# EAGLE library part NC7WZ14P6X (library KVB-ICs)
Inverter IC 2 Channel Schmitt Trigger SC-70-6
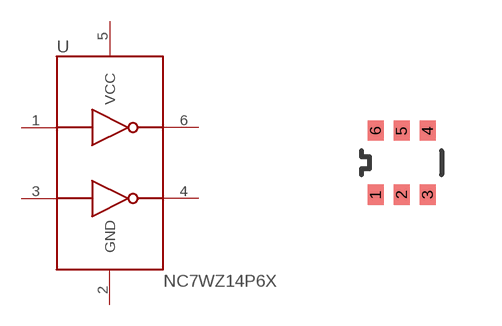
[diagram p1: symbol with the pads of SC70; footprint SC70]

Designator prefix U

## NC7WZ14P6XSC70 (MAN-PART_NUM: NC7WZ14P6X; MANUFACTURER: Fairchild Semiconductor)  [SC70]
1  A1
2  GND
3  A2
4  Y2
5  VCC
6  Y1

## Footprint SC70 (pad centres in mm)
smd 0.4 x 0.5: 1 -0.65,-0.8; 2 0,-0.8; 3 0.65,-0.8; 4 0.65,0.8; 5 0,0.8; 6 -0.65,0.8